# EAGLE library part AT26DF (library memory-spi)
8-megabit (1Mbyte) 2.7-volt Only Serial Firmware DataFlash® Memory
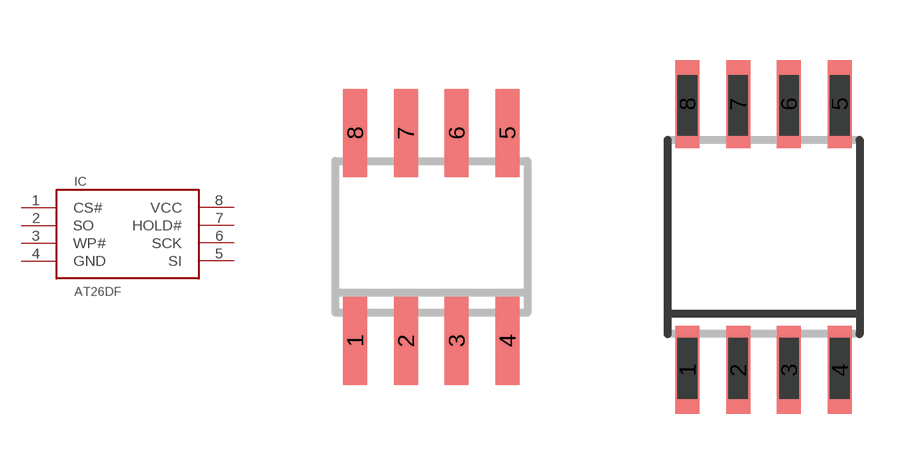
[diagram p0: symbol with the pads of SO-08; footprints SO-08, SO-08M]

Designator prefix IC

## AT26DF081A-SSU, AT26DF321-SSU  [SO-08]
1  CS#  in
2  SO  out
3  WP#  in
4  GND  pwr
5  SI  in
6  SCK  in
7  HOLD#  in
8  VCC  pwr

## AT26DF-SU  [SO-08M]
Pads as for SO-08

## Footprint SO-08 (pad centres in mm)
Small Outline Narrow Plastic Gull Wing 150-mil body, package type SN
smd 0.6 x 2.2: 1 -1.905,-2.6; 2 -0.635,-2.6; 3 0.635,-2.6; 4 1.905,-2.6; 5 1.905,2.6; 6 0.635,2.6; 7 -0.635,2.6; 8 -1.905,2.6

## Footprint SO-08M (pad centres in mm)
Small Outline Medium Plastic Gull Wing 207-mil body, package type SM
smd 0.6 x 2.2: 1 -1.905,-3.33; 2 -0.635,-3.33; 3 0.635,-3.33; 4 1.905,-3.33; 5 1.905,3.33; 6 0.635,3.33; 7 -0.635,3.33; 8 -1.905,3.33